# EAGLE library part 2-1462038-0 (library Relays)
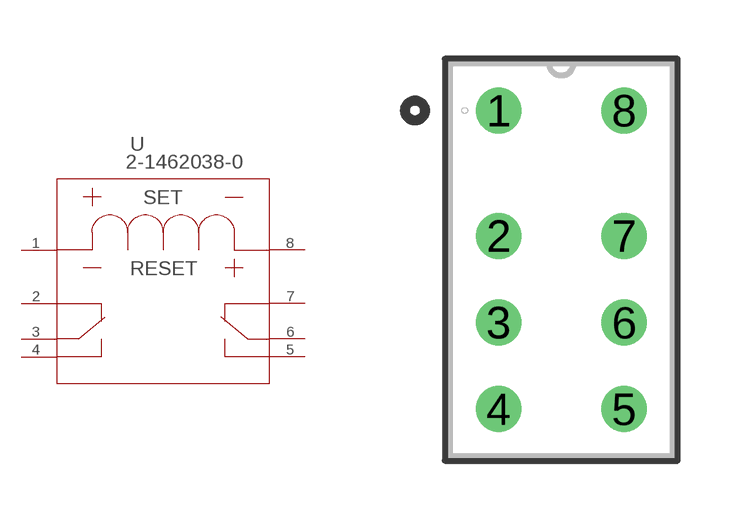
[diagram p28: symbol with the pads of RELAY8_THTNRW; footprint RELAY8_THTNRW]

Designator prefix U

## 2-1462038-0 (BUILT_BY: EMA_UL_Team; CATEGORY: Signal Relays; COPYRIGHT: Copyright (C) 2016 Accelerated Designs. All rights reserved; DESCRIPTION: IM42NS=IM RELAY 100 MW_4.5V; MANUFACTURER_PART_NUMBER: 2-1462038-0; PART_STATUS: active; SERIES: Axicom IM; VENDOR: TE Connectivity)  [RELAY8_THTNRW]
1  1  pas
2  2  pas
3  3  pas
4  4  pas
5  5  pas
6  6  pas
7  7  pas
8  8  pas

## Footprint RELAY8_THTNRW (pad centres in mm)
drill 0.66 pad 1.168: 1 -3.2,7.62; 2 -3.2,4.42; 3 -3.2,2.21; 4 -3.2,0; 5 0,0; 6 0,2.21; 7 0,4.42; 8 0,7.62